# Altium footprint library aiskylab-06IC-04PWR.PcbLib: 25 footprints (part 1 of 2)
Each footprint in its own frame and in the unit in brackets; x right, y up, seen from the top. Pads: shape width x height; smd on the part's side, far side on the other; paste and mask are expansions set on the pad; w line width, h text height; cw(c..) or ccw(c..) is an arc to the next point about the centre after c.
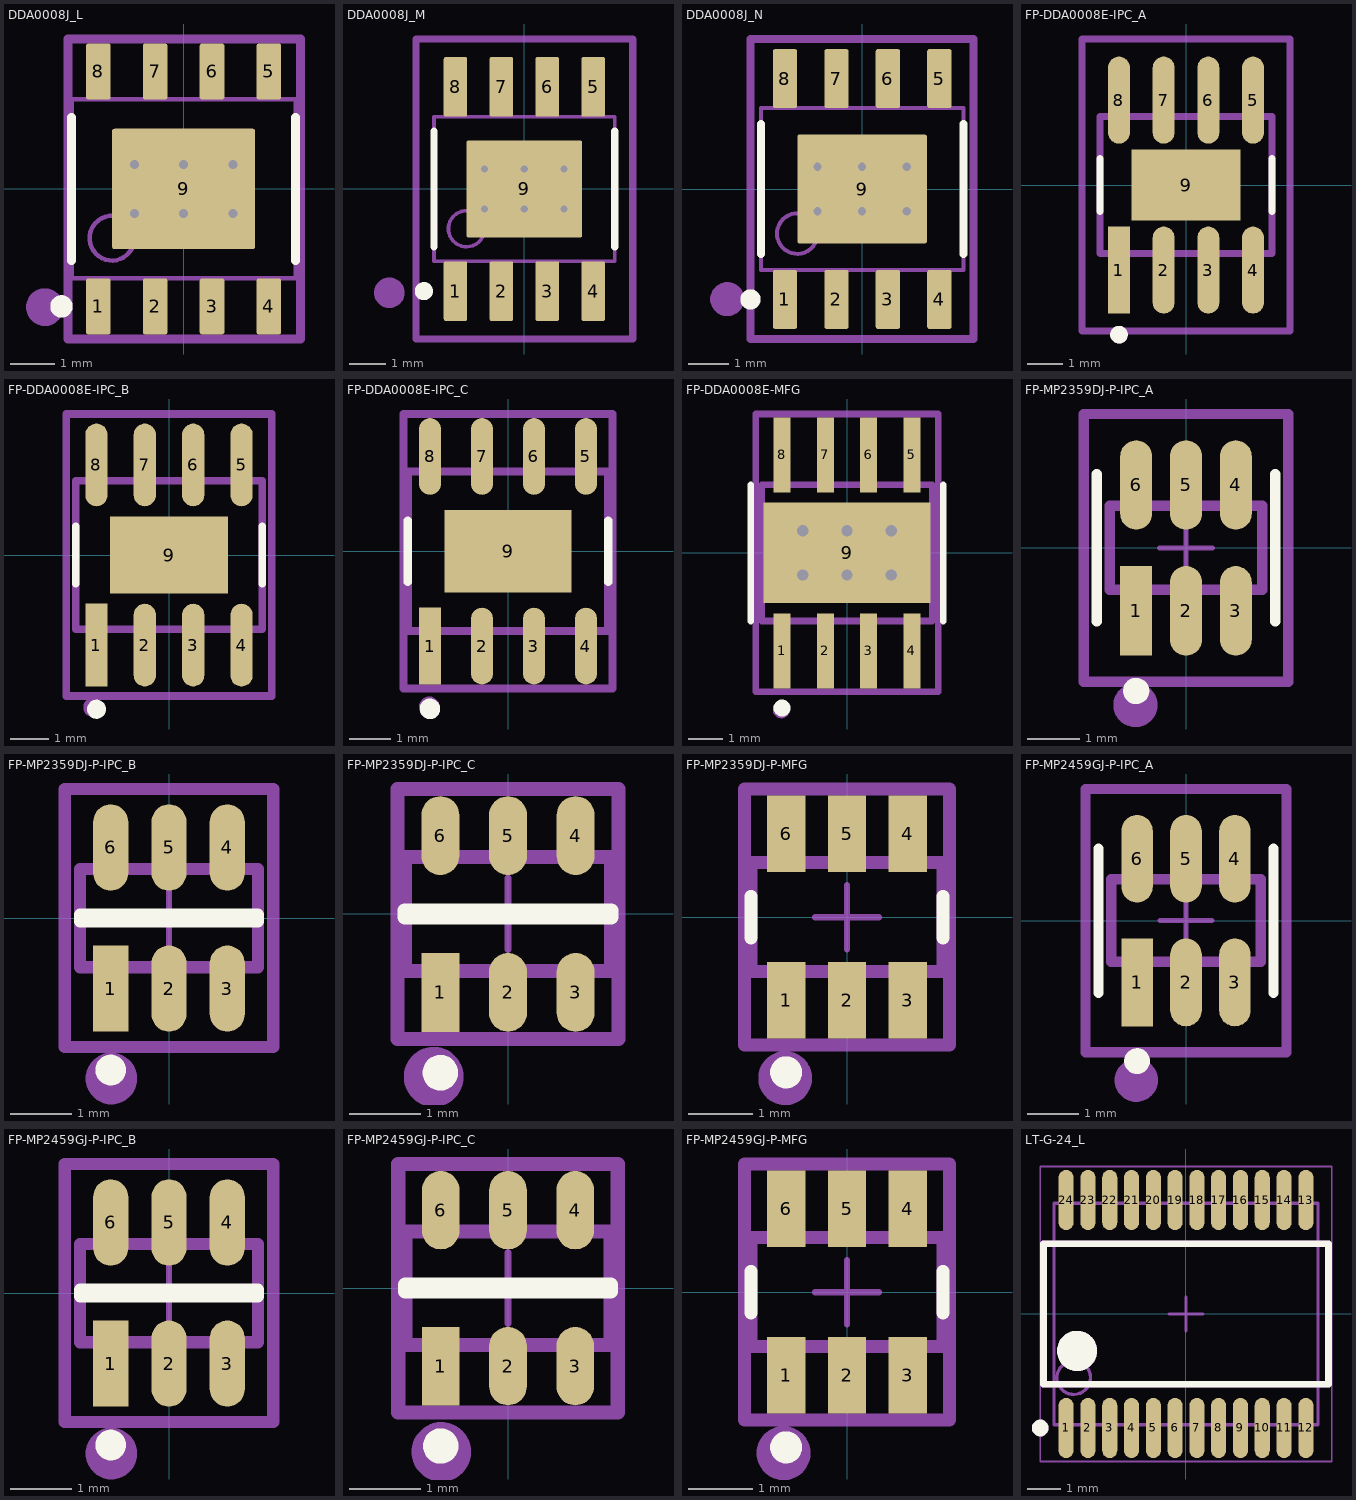
[diagram p0: the footprints below, top view; thin cyan lines are the x and y axes]

## DDA0008J_L [mm] "SOP, 8-Leads, Body 5x4mm, Pitch 1.27mm, Thermal Pad 3.2x2.69mm, IPC High Wizard"
height 1.7
pads (9):
  rrect18% 0.55x1.25 smd: 1(-1.905,-2.625) 2(-0.635,-2.625) 3(0.635,-2.625) 4(1.905,-2.625) 5(1.905,2.625) 6(0.635,2.625) 7(-0.635,2.625) 8(-1.905,2.625)
  rrect4% 3.2x2.69 smd: 9(0,0)
via -1.1,-0.55 diameter 0.5 hole 0.2
via -1.1,0.55 diameter 0.5 hole 0.2
via 0,-0.55 diameter 0.5 hole 0.2
via 0,0.55 diameter 0.5 hole 0.2
via 1.1,-0.55 diameter 0.5 hole 0.2
via 1.1,0.55 diameter 0.5 hole 0.2
Top Overlay:
  circle w0.25: c-2.73,-2.625 r0.125
  lines w0.2: -2.5,-1.6 -2.5,1.6 ; 2.5,-1.6 2.5,1.6
Top Designator:
  text ".Designator" at -7.619,-0.338 h1.52
Top Assembly:
  circle w0.5: c-3.099,-2.642 r0.17
  lines w0.2: -2.584,-3.353 2.616,-3.353 2.616,3.347 -2.584,3.347 -2.584,-3.353
Top Component Center:
  lines w0.1: -0.5,0 0.5,0 ; 0,-0.5 0,0.5
Top Component Outline:
  lines w0.05: -2.6,-3.35 2.6,-3.35 2.6,3.35 -2.6,3.35 -2.6,-3.35
Top 3D Body:
  circle w0.1: c-1.6,-1.1 r0.5
  lines w0.1: -2.5,-2 2.5,-2 2.5,2 -2.5,2 -2.5,-2
3D body "DDA0008A.stp": height 1.52, standoff -0.03, extent -2.451,-2.978 2.451,2.978

## DDA0008J_M [mm] "SOP, 8-Leads, Body 5x4mm, Pitch 1.27mm, Thermal Pad 3.2x2.69mm, IPC Low Wizard"
height 1.7
pads (9):
  rrect15% 0.65x1.65 smd: 1(-1.905,-2.825) 2(-0.635,-2.825) 3(0.635,-2.825) 4(1.905,-2.825) 5(1.905,2.825) 6(0.635,2.825) 7(-0.635,2.825) 8(-1.905,2.825)
  rrect4% 3.2x2.69 smd: 9(0,0)
via -1.1,-0.55 diameter 0.5 hole 0.2
via -1.1,0.55 diameter 0.5 hole 0.2
via 0,-0.55 diameter 0.5 hole 0.2
via 0,0.55 diameter 0.5 hole 0.2
via 1.1,-0.55 diameter 0.5 hole 0.2
via 1.1,0.55 diameter 0.5 hole 0.2
Top Overlay:
  circle w0.25: c-2.78,-2.825 r0.125
  lines w0.2: -2.5,-1.6 -2.5,1.6 ; 2.5,-1.6 2.5,1.6
Top Designator:
  text ".Designator" at -6.418,-0.505 h1.52
Top Assembly:
  circle w0.5: c-3.734,-2.87 r0.17
  lines w0.2: -3,-4.15 3,-4.15 3,4.15 -3,4.15 -3,-4.15
Top Component Center:
  lines w0.1: -0.5,0 0.5,0 ; 0,-0.5 0,0.5
Top Component Outline:
  lines w0.05: -3,-4.15 3,-4.15 3,4.15 -3,4.15 -3,-4.15
Top 3D Body:
  circle w0.1: c-1.6,-1.1 r0.5
  lines w0.1: -2.5,-2 2.5,-2 2.5,2 -2.5,2 -2.5,-2
3D body "DDA0008A.stp": height 1.52, standoff -0.03, extent -2.451,-2.978 2.451,2.978

## DDA0008J_N [mm] "SOP, 8-Leads, Body 5x4mm, Pitch 1.27mm, Thermal Pad 3.2x2.69mm, IPC Medium Wizard"
height 1.7
pads (9):
  rrect17% 0.6x1.45 smd: 1(-1.905,-2.725) 2(-0.635,-2.725) 3(0.635,-2.725) 4(1.905,-2.725) 5(1.905,2.725) 6(0.635,2.725) 7(-0.635,2.725) 8(-1.905,2.725)
  rrect4% 3.2x2.69 smd: 9(0,0)
via 1.1,0.55 diameter 0.5 hole 0.2
via 1.1,-0.55 diameter 0.5 hole 0.2
via 0,0.55 diameter 0.5 hole 0.2
via 0,-0.55 diameter 0.5 hole 0.2
via -1.1,0.55 diameter 0.5 hole 0.2
via -1.1,-0.55 diameter 0.5 hole 0.2
Top Overlay:
  circle w0.25: c-2.755,-2.725 r0.125
  lines w0.2: -2.5,-1.6 -2.5,1.6 ; 2.5,-1.6 2.5,1.6
Top Designator:
  text ".Designator" at -6.193,-0.393 h1.52
Top Assembly:
  circle w0.5: c-3.327,-2.718 r0.17
  lines w0.2: -2.75,-3.7 -2.75,3.7 2.75,3.7 2.75,-3.7 -2.75,-3.7
Top Component Center:
  lines w0.1: -0.5,0 0.5,0 ; 0,-0.5 0,0.5
Top Component Outline:
  lines w0.05: -2.75,-3.7 -2.75,3.7 2.75,3.7 2.75,-3.7 -2.75,-3.7
Top 3D Body:
  circle w0.1: c-1.6,-1.1 r0.5
  lines w0.1: -2.5,-2 -2.5,2 2.5,2 2.5,-2 -2.5,-2
3D body "DDA0008A.stp": height 1.52, standoff -0.03, extent -2.451,-2.978 2.451,2.978

## FP-DDA0008E-IPC_A [mm]
pads (9):
  rect 0.622x2.474 smd paste+0 mask+0: 1(-1.905,-2.416)
  rrect100% 0.622x2.474 smd paste+0 mask+0: 2(-0.635,-2.416) 3(0.635,-2.416) 4(1.905,-2.416) 5(1.905,2.416) 6(0.635,2.416) 7(-0.635,2.416) 8(-1.905,2.416)
  rect 3.1x2.025 smd paste-1000 mask+0: 9(0,0)
Top Overlay:
  circle w0.25: c-1.905,-4.25 r0.125
  lines w0.2: -2.45,-0.75 -2.45,0.75 ; 2.45,-0.75 2.45,0.75
Top Paste:
  region: 1.105,-0.568 1.105,0.568 -1.105,0.568 -1.105,-0.568
Top Designator:
  text ".Designator" at 0.001,0 h1
Top Assembly:
  circle w0.25: c-1.905,-4.25 r0.125
  lines w0.2: -2.45,-0.75 -2.45,0.75 ; 2.45,-0.75 2.45,0.75
Top Component Center:
  lines w0.1: -0.5,0 0.5,0 ; 0,-0.5 0,0.5
Top Component Outline:
  lines w0.2: -2.95,-4.153 2.95,-4.153 ; -2.95,-4.153 -2.95,4.153 ; -2.95,-4.153 2.95,-4.153 ; -2.95,-4.153 -2.95,4.153 ; -2.95,4.153 2.95,4.153 ; -2.95,4.153 2.95,4.153 ; 2.95,-4.153 2.95,4.153 ; 2.95,-4.153 2.95,4.153
Top 3D Body:
  lines w0.2: -2.45,-1.95 2.45,-1.95 2.45,1.95 -2.45,1.95 -2.45,-1.95
3D body "IC_Texas_Instruments_TPS54360BQDDARQ1_eec.STEP": height 1.7, standoff 0, extent -2.45,-3 2.45,3

## FP-DDA0008E-IPC_B [mm]
pads (9):
  rect 0.582x2.174 smd paste+0 mask+0: 1(-1.905,-2.366)
  rrect100% 0.582x2.174 smd paste+0 mask+0: 2(-0.635,-2.366) 3(0.635,-2.366) 4(1.905,-2.366) 5(1.905,2.366) 6(0.635,2.366) 7(-0.635,2.366) 8(-1.905,2.366)
  rect 3.1x2.025 smd paste-1000 mask+0: 9(0,0)
Top Overlay:
  circle w0.25: c-1.905,-4.05 r0.125
  lines w0.2: -2.45,-0.75 -2.45,0.75 ; 2.45,-0.75 2.45,0.75
Top Paste:
  region: 1.105,-0.568 1.105,0.568 -1.105,0.568 -1.105,-0.568
Top Designator:
  text ".Designator" at 0.001,0 h1
Top Assembly:
  circle w0.25: c-2,-4 r0.125
  lines w0.2: -2.7,-3.703 2.7,-3.703 2.7,3.703 -2.7,3.703 -2.7,-3.703
Top Component Center:
  lines w0.1: -0.5,0 0.5,0 ; 0,-0.5 0,0.5
Top Component Outline:
  lines w0.2: -2.7,-3.703 2.7,-3.703 2.7,3.703 -2.7,3.703 -2.7,-3.703
Top 3D Body:
  lines w0.2: -2.45,-1.95 2.45,-1.95 2.45,1.95 -2.45,1.95 -2.45,-1.95
3D body "IC_Texas_Instruments_TPS54360BQDDARQ1_eec.STEP": height 1.7, standoff 0, extent -2.45,-3 2.45,3

## FP-DDA0008E-IPC_C [mm]
pads (9):
  rect 0.542x1.874 smd paste+0 mask+0: 1(-1.905,-2.316)
  rrect100% 0.542x1.874 smd paste+0 mask+0: 2(-0.635,-2.316) 3(0.635,-2.316) 4(1.905,-2.316) 5(1.905,2.316) 6(0.635,2.316) 7(-0.635,2.316) 8(-1.905,2.316)
  rect 3.1x2.025 smd paste-1000 mask+0: 9(0,0)
Top Overlay:
  circle w0.25: c-1.905,-3.85 r0.125
  lines w0.2: -2.45,-0.75 -2.45,0.75 ; 2.45,-0.75 2.45,0.75
Top Paste:
  region: 1.105,-0.568 1.105,0.568 -1.105,0.568 -1.105,-0.568
Top Designator:
  text ".Designator" at 0.001,0 h1
Top Assembly:
  circle w0.25: c-1.925,-3.8 r0.125
  lines w0.2: -2.55,-3.353 2.55,-3.353 2.55,3.353 -2.55,3.353 -2.55,-3.353
Top Component Center:
  lines w0.1: -0.5,0 0.5,0 ; 0,-0.5 0,0.5
Top Component Outline:
  lines w0.2: -2.55,-3.353 2.55,-3.353 2.55,3.353 -2.55,3.353 -2.55,-3.353
Top 3D Body:
  lines w0.2: -2.45,-1.95 2.45,-1.95 2.45,1.95 -2.45,1.95 -2.45,-1.95
3D body "IC_Texas_Instruments_TPS54360BQDDARQ1_eec.STEP": height 1.7, standoff 0, extent -2.45,-3 2.45,3

## FP-DDA0008E-MFG [mm]
pads (9):
  rect 0.5x2.2 smd paste-1000 mask+0: 1(-1.905,-2.875) 2(-0.635,-2.875) 3(0.635,-2.875) 4(1.905,-2.875) 5(1.905,2.875) 6(0.635,2.875) 7(-0.635,2.875) 8(-1.905,2.875)
  rect 4.9x2.95 smd paste-1000 mask-1000: 9(0,0)
via 1.3,0.65 diameter 0.63 hole 0.33
via 0,0.65 diameter 0.63 hole 0.33
via -1.3,0.65 diameter 0.63 hole 0.33
via 1.3,-0.65 diameter 0.63 hole 0.33
via 0,-0.65 diameter 0.63 hole 0.33
via -1.3,-0.65 diameter 0.63 hole 0.33
Top Overlay:
  circle w0.25: c-1.905,-4.55 r0.125
  lines w0.2: -2.825,-2 -2.825,2 ; 2.825,-2 2.825,2
Top Paste:
  region: 2.13,1.8 2.13,3.95 1.68,3.95 1.68,1.8
  region: 0.86,1.8 0.86,3.95 0.41,3.95 0.41,1.8
  region: -0.41,1.8 -0.41,3.95 -0.86,3.95 -0.86,1.8
  region: -1.68,1.8 -1.68,3.95 -2.13,3.95 -2.13,1.8
  region: 2.13,-3.95 2.13,-1.8 1.68,-1.8 1.68,-3.95
  region: 0.86,-3.95 0.86,-1.8 0.41,-1.8 0.41,-3.95
  region: -0.41,-3.95 -0.41,-1.8 -0.86,-1.8 -0.86,-3.95
  region: -1.68,-3.95 -1.68,-1.8 -2.13,-1.8 -2.13,-3.95
  region: 1.55,-1.2 1.55,1.2 -1.55,1.2 -1.55,-1.2
Top Solder:
  region: 1.55,-1.2 1.55,1.2 -1.55,1.2 -1.55,-1.2
Top Designator:
  text ".Designator" at -0.188,0 h1
Top Assembly:
  circle w0.25: c-1.925,-4.6 r0.125
  lines w0.2: -2.675,-4.075 2.675,-4.075 2.675,4.075 -2.675,4.075 -2.675,-4.075
Top Component Center:
  lines w0.1: -0.5,0 0.5,0 ; 0,-0.5 0,0.5
Top Component Outline:
  lines w0.2: -2.675,-4.075 2.675,-4.075 2.675,4.075 -2.675,4.075 -2.675,-4.075
Top 3D Body:
  lines w0.2: -2.5,-2 2.5,-2 2.5,2 -2.5,2 -2.5,-2
3D body "IC_Texas_Instruments_TPS54360BQDDARQ1_eec.STEP": height 1.7, standoff 0, extent -2.45,-3 2.45,3

## FP-MP2359DJ-P-IPC_A [mm] "TSOT23-6"
pads (6):
  rect 0.612x1.706 smd paste+0 mask+0: 1(-0.95,-1.2)
  rrect100% 0.612x1.706 smd paste+0 mask+0: 2(0,-1.2) 3(0.95,-1.2) 4(0.95,1.2) 5(0,1.2) 6(-0.95,1.2)
Top Overlay:
  circle w0.25: c-0.95,-2.728 r0.125
  lines w0.2: -1.7,-1.4 -1.7,1.4 ; 1.7,-1.4 1.7,1.4
Top Designator:
  text ".Designator" at -7.618,-0.67 h1.52
Top Assembly:
  circle w0.5: c-0.965,-2.997 r0.17
  lines w0.2: -1.95,-2.553 -1.95,2.553 1.95,2.553 1.95,-2.553 -1.95,-2.553
Top Component Center:
  lines w0.1: -0.5,0 0.5,0 ; 0,-0.5 0,0.5
Top Component Outline:
  lines w0.2: -1.95,-2.553 1.95,-2.553 1.95,2.553 -1.95,2.553 -1.95,-2.553
Top 3D Body:
  lines w0.2: -1.45,-0.8 1.45,-0.8 1.45,0.8 -1.45,0.8 -1.45,-0.8
3D body "SOT-23-6.STEP": height 1.45, standoff 0, extent -1.55,-1.535 1.55,1.535

## FP-MP2359DJ-P-IPC_B [mm] "TSOT23-6"
pads (6):
  rect 0.572x1.406 smd paste+0 mask+0: 1(-0.95,-1.15)
  rrect100% 0.572x1.406 smd paste+0 mask+0: 2(0,-1.15) 3(0.95,-1.15) 4(0.95,1.15) 5(0,1.15) 6(-0.95,1.15)
Top Overlay:
  circle w0.25: c-0.95,-2.478 r0.125
  lines w0.2: -1.45,-0.053 -1.45,0.053 1.45,0.053 1.45,-0.053 -1.45,-0.053
Top Designator:
  text ".Designator" at -7.618,-0.77 h1.52
Top Assembly:
  circle w0.5: c-0.94,-2.616 r0.17
  lines w0.2: -1.7,-2.103 1.7,-2.103 1.7,2.103 -1.7,2.103 -1.7,-2.103
Top Component Center:
  lines w0.1: -0.5,0 0.5,0 ; 0,-0.5 0,0.5
Top Component Outline:
  lines w0.2: -1.7,-2.103 1.7,-2.103 1.7,2.103 -1.7,2.103 -1.7,-2.103
Top 3D Body:
  lines w0.2: -1.45,-0.8 1.45,-0.8 1.45,0.8 -1.45,0.8 -1.45,-0.8
3D body "SOT-23-6.STEP": height 1.45, standoff 0, extent -1.55,-1.535 1.55,1.535

## FP-MP2359DJ-P-IPC_C [mm] "TSOT23-6"
pads (6):
  rect 0.532x1.106 smd paste+0 mask+0: 1(-0.95,-1.1)
  rrect100% 0.532x1.106 smd paste+0 mask+0: 2(0,-1.1) 3(0.95,-1.1) 4(0.95,1.1) 5(0,1.1) 6(-0.95,1.1)
Top Overlay:
  circle w0.25: c-0.95,-2.228 r0.125
  lines w0.2: -1.45,-0.047 1.45,-0.047 1.45,0.047 -1.45,0.047 -1.45,-0.047
Top Designator:
  text ".Designator" at -7.93,-0.508 h1.52
Top Assembly:
  circle w0.5: c-1.041,-2.286 r0.17
  lines w0.2: -1.55,-1.753 -1.55,1.753 1.55,1.753 1.55,-1.753 -1.55,-1.753
Top Component Center:
  lines w0.1: -0.5,0 0.5,0 ; 0,-0.5 0,0.5
Top Component Outline:
  lines w0.2: -1.55,-1.753 -1.55,1.753 1.55,1.753 1.55,-1.753 -1.55,-1.753
Top 3D Body:
  lines w0.2: -1.45,-0.8 -1.45,0.8 1.45,0.8 1.45,-0.8 -1.45,-0.8
3D body "SOT-23-6.STEP": height 1.45, standoff 0, extent -1.55,-1.509 1.55,1.56

## FP-MP2359DJ-P-MFG [mm] "TSOT23-6"
pads (6):
  rect 0.6x1.2 smd paste+0 mask+0: 1(-0.95,-1.3) 2(0,-1.3) 3(0.95,-1.3) 4(0.95,1.3) 5(0,1.3) 6(-0.95,1.3)
Top Overlay:
  circle w0.25: c-0.95,-2.425 r0.125
  lines w0.2: -1.5,-0.325 -1.5,0.325 ; 1.5,-0.325 1.5,0.325
Top Designator:
  text ".Designator" at -7.905,-0.508 h1.52
Top Assembly:
  circle w0.5: c-0.965,-2.515 r0.17
  lines w0.2: -1.6,-2 1.6,-2 1.6,2 -1.6,2 -1.6,-2
Top Component Center:
  lines w0.1: -0.5,0 0.5,0 ; 0,-0.5 0,0.5
Top Component Outline:
  lines w0.2: -1.6,-2 1.6,-2 1.6,2 -1.6,2 -1.6,-2
Top 3D Body:
  lines w0.2: -1.5,-0.85 1.5,-0.85 1.5,0.85 -1.5,0.85 -1.5,-0.85
3D body "SOT-23-6.STEP": height 1.45, standoff 0, extent -1.55,-1.535 1.55,1.535

## FP-MP2459GJ-P-IPC_A [mm] "TSOT23-6"
pads (6):
  rect 0.612x1.706 smd paste+0 mask+0: 1(-0.95,-1.2)
  rrect100% 0.612x1.706 smd paste+0 mask+0: 2(0,-1.2) 3(0.95,-1.2) 4(0.95,1.2) 5(0,1.2) 6(-0.95,1.2)
Top Overlay:
  circle w0.25: c-0.95,-2.728 r0.125
  lines w0.2: -1.7,-1.4 -1.7,1.4 ; 1.7,-1.4 1.7,1.4
Top Designator:
  text ".Designator" at -7.78,-0.508 h1.52
Top Assembly:
  circle w0.5: c-0.965,-3.099 r0.17
  lines w0.2: -1.95,-2.553 1.95,-2.553 1.95,2.553 -1.95,2.553 -1.95,-2.553
Top Component Center:
  lines w0.1: -0.5,0 0.5,0 ; 0,-0.5 0,0.5
Top Component Outline:
  lines w0.2: -1.95,-2.553 1.95,-2.553 1.95,2.553 -1.95,2.553 -1.95,-2.553
Top 3D Body:
  lines w0.2: -1.45,-0.8 1.45,-0.8 1.45,0.8 -1.45,0.8 -1.45,-0.8
3D body "IC_Monolithic_Power_Systems_MP2459GJ-P_eec.STEP": height 0.95, standoff -0.02, extent -1.46,-1.414 1.44,1.386

## FP-MP2459GJ-P-IPC_B [mm] "TSOT23-6"
pads (6):
  rect 0.572x1.406 smd paste+0 mask+0: 1(-0.95,-1.15)
  rrect100% 0.572x1.406 smd paste+0 mask+0: 2(0,-1.15) 3(0.95,-1.15) 4(0.95,1.15) 5(0,1.15) 6(-0.95,1.15)
Top Overlay:
  circle w0.25: c-0.95,-2.478 r0.125
  lines w0.2: -1.45,-0.053 -1.45,0.053 1.45,0.053 1.45,-0.053 -1.45,-0.053
Top Designator:
  text ".Designator" at -7.88,-0.508 h1.52
Top Assembly:
  circle w0.5: c-0.94,-2.616 r0.17
  lines w0.2: -1.7,-2.103 1.7,-2.103 1.7,2.103 -1.7,2.103 -1.7,-2.103
Top Component Center:
  lines w0.1: -0.5,0 0.5,0 ; 0,-0.5 0,0.5
Top Component Outline:
  lines w0.2: -1.7,-2.103 1.7,-2.103 1.7,2.103 -1.7,2.103 -1.7,-2.103
Top 3D Body:
  lines w0.2: -1.45,-0.8 1.45,-0.8 1.45,0.8 -1.45,0.8 -1.45,-0.8
3D body "IC_Monolithic_Power_Systems_MP2459GJ-P_eec.STEP": height 0.95, standoff -0.02, extent -1.46,-1.414 1.44,1.386

## FP-MP2459GJ-P-IPC_C [mm] "TSOT23-6"
pads (6):
  rect 0.532x1.106 smd paste+0 mask+0: 1(-0.95,-1.1)
  rrect100% 0.532x1.106 smd paste+0 mask+0: 2(0,-1.1) 3(0.95,-1.1) 4(0.95,1.1) 5(0,1.1) 6(-0.95,1.1)
Top Overlay:
  circle w0.25: c-0.95,-2.228 r0.125
  lines w0.2: -1.45,-0.047 1.45,-0.047 1.45,0.047 -1.45,0.047 -1.45,-0.047
Top Designator:
  text ".Designator" at -7.93,-0.508 h1.52
Top Assembly:
  circle w0.5: c-0.94,-2.311 r0.17
  lines w0.2: -1.55,-1.753 -1.55,1.753 1.55,1.753 1.55,-1.753 -1.55,-1.753
Top Component Center:
  lines w0.1: -0.5,0 0.5,0 ; 0,-0.5 0,0.5
Top Component Outline:
  lines w0.2: -1.55,-1.753 -1.55,1.753 1.55,1.753 1.55,-1.753 -1.55,-1.753
Top 3D Body:
  lines w0.2: -1.45,-0.8 -1.45,0.8 1.45,0.8 1.45,-0.8 -1.45,-0.8
3D body "IC_Monolithic_Power_Systems_MP2459GJ-P_eec.STEP": height 0.95, standoff -0.02, extent -1.46,-1.414 1.44,1.386

## FP-MP2459GJ-P-MFG [mm] "TSOT23-6"
pads (6):
  rect 0.6x1.2 smd paste+0 mask+0: 1(-0.95,-1.3) 2(0,-1.3) 3(0.95,-1.3) 4(0.95,1.3) 5(0,1.3) 6(-0.95,1.3)
Top Overlay:
  circle w0.25: c-0.95,-2.425 r0.125
  lines w0.2: -1.5,-0.325 -1.5,0.325 ; 1.5,-0.325 1.5,0.325
Top Designator:
  text ".Designator" at -7.905,-0.508 h1.52
Top Assembly:
  circle w0.5: c-0.991,-2.515 r0.17
  lines w0.2: -1.6,-2 1.6,-2 1.6,2 -1.6,2 -1.6,-2
Top Component Center:
  lines w0.1: -0.5,0 0.5,0 ; 0,-0.5 0,0.5
Top Component Outline:
  lines w0.2: -1.6,-2 1.6,-2 1.6,2 -1.6,2 -1.6,-2
Top 3D Body:
  lines w0.2: -1.5,-0.85 1.5,-0.85 1.5,0.85 -1.5,0.85 -1.5,-0.85
3D body "IC_Monolithic_Power_Systems_MP2459GJ-P_eec.STEP": height 0.95, standoff -0.02, extent -1.46,-1.414 1.44,1.386

## LT-G-24_L [mm] "SOP, 24-Leads, Body 8.5x5.6mm, Pitch 0.65mm, IPC High Density"
height 2
pads (24):
  oval 0.45x1.8 smd: 1(-3.575,-3.4) 2(-2.925,-3.4) 3(-2.275,-3.4) 4(-1.625,-3.4) 5(-0.975,-3.4) 6(-0.325,-3.4) 7(0.325,-3.4) 8(0.975,-3.4) 9(1.625,-3.4) 10(2.275,-3.4) 11(2.925,-3.4) 12(3.575,-3.4) 13(3.575,3.4) 14(2.925,3.4) 15(2.275,3.4) 16(1.625,3.4) 17(0.975,3.4) 18(0.325,3.4) 19(-0.325,3.4) 20(-0.975,3.4) 21(-1.625,3.4) 22(-2.275,3.4) 23(-2.925,3.4) 24(-3.575,3.4)
Top Overlay:
  circle w0.6: c-3.25,-1.1 r0.3
  circle w0.25: c-4.35,-3.4 r0.125
  lines w0.2: -4.25,-2.1 -4.25,2.1 4.25,2.1 4.25,-2.1 -4.25,-2.1
Top Assembly:
  circle w0.6: c-3.25,-1.1 r0.3
  circle w0.25: c-4.35,-3.4 r0.125
  lines w0.2: -4.25,-2.1 -4.25,2.1 4.25,2.1 4.25,-2.1 -4.25,-2.1
Top Component Center:
  lines w0.1: -0.5,0 0.5,0 ; 0,-0.5 0,0.5
Top Component Outline:
  lines w0.05: -4.35,-4.4 4.35,-4.4 4.35,4.4 -4.35,4.4 -4.35,-4.4
Top 3D Body:
  circle w0.1: c-3.35,-1.9 r0.5
  lines w0.1: -3.937,-3.302 3.937,-3.302 3.937,3.302 -3.937,3.302 -3.937,-3.302
3D body "User Library-User Library-TSSOP-24.step": height 1.2, standoff 0, extent -3.963,-3.275 3.937,3.275